# Altium footprint library AC220_to_48V.PcbLib: 9 footprints
Each footprint in its own frame and in the unit in brackets; x right, y up, seen from the top. Pads: shape width x height; smd on the part's side, far side on the other; paste and mask are expansions set on the pad; w line width, h text height; cw(c..) or ccw(c..) is an arc to the next point about the centre after c.
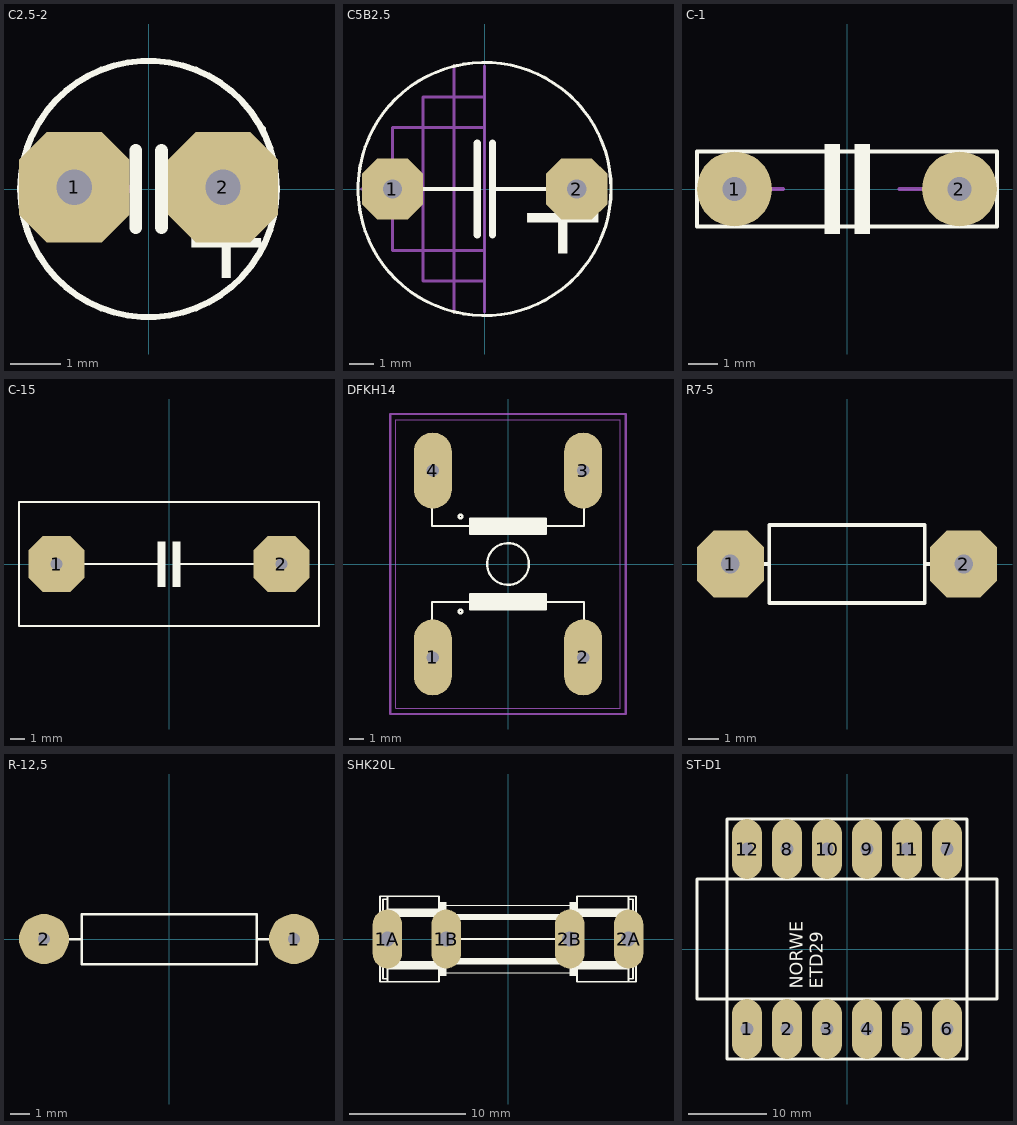
[diagram p0: the footprints below, top view; thin cyan lines are the x and y axes]

## C2.5-2 [mil] "C2.5-2"
pads (2):
  oct 86x86 / inner round 79.45 / far side oct 86x86 hole 27.56: 1(-58.05,1.44) 2(58.05,1.38)
Top Overlay:
  circle w5: c0,0 r100
  lines w5: 89.07,46.28 89.07,46.97
  lines w10: -10,-30 -10,0 -10,30 ; 10,-30 10,0 10,30
  text "+" at 24.44,-90.45 h108.5
Mechanical 3:
  lines w6: -50,0 -15,0 ; 15,0 50,0
Mechanical 7:
  lines w6: -15,0 -10,0 ; 10,0 15,0

## C5B2.5 [mil] "C5B2.5"
pads (2):
  oct 100x100 / inner round 92.39 / far side oct 100x100 hole 31.5: 1(-150,0) 2(150,0)
Top Overlay:
  circle w5: c0,0 r206.16
  lines w6: -160,0 -12,0 ; 13,0 110,0
  lines w12: -12,-75 -12,0 -12,75 ; 13,-75 13,0 13,75
  text "+" at 50,-150 h232.5
Top Value:
  lines w5: -200,0 -150,0 ; -50,-200 -50,200 ; 0,-200 0,-150 ; 0,200 0,150 ; -150,0 -150,-100 0,-100 ; -150,0 -150,100 0,100 ; 0,-150 -100,-150 -100,150 0,150 ; 0,-150 0,-100 ; 0,-100 0,100 ; 0,100 0,150

## C-1 [mil] "C-1"
pads (2):
  round 100 hole 32: 1(-150,0) 2(150,0)
Top Overlay:
  region: -30,-60 -30,60 -10,60 -10,-60
  region: 10,-60 10,60 30,60 30,-60
  lines w5: -200,-50 -200,50 200,50 200,-50 -200,-50
Mechanical 7:
  lines w5: -130,0 -85,0 ; 70,0 115,0

## C-15 [mil] "C-15"
pads (2):
  oct 150x150 / inner round 138.58 / far side oct 150x150 hole 32: 1(-300,0) 2(300,0)
Top Overlay:
  region: -30,-60 -30,60 -10,60 -10,-60
  region: 10,-60 10,60 30,60 30,-60
  lines w5: -255,0 -20,0 ; 25,0 255,0 ; -400,-165 400,-165 400,165 -400,165 -400,-165

## DFKH14 [mil] "DFKH14"
pads (4):
  oval 100x200 hole 32: 1(-198,-246) 2(198,-246) 3(198,246) 4(-198,246)
Top Overlay:
  circle w6: c0,0 r55
  circle w6: c-125,-125 r5
  circle w6: c-125,125 r5
  region: -100,120 100,120 100,80 -100,80
  region: -100,-80 100,-80 100,-120 -100,-120
  lines w6: -200,-205 -200,-100 -100,-100 ; -200,155 -200,100 -100,100 ; 100,-100 200,-100 200,-205 ; 200,205 200,100 100,100 ; -100,-100 -100,-120 100,-120 100,-80 -100,-80 -100,-100 ; -100,100 -100,120 100,120 100,100 ; -100,100 -100,80 100,80 100,100
Mechanical 3:
  lines w2: -295,-380 295,-380 295,380 -295,380 -295,-380
Mechanical 7:
  lines w6: -310,-395 310,-395 310,395 -310,395 -310,-395

## R7-5 [mil] "R7-5"
pads (2):
  oct 86x86 / inner round 79.45 / far side oct 86x86 hole 24: 1(-150,0) 2(150,0)
Top Overlay:
  lines w5: -120,0 -100,0 ; 120,0 100,0 ; -100,0 -100,50 100,50 100,0 ; -100,0 -100,-50 100,-50 100,0

## R-12,5 [mil] "R-12,5"
pads (2):
  round 100 hole 24: 1(250,0) 2(-250,0)
Top Overlay:
  lines w5: -220,0 -175,0 ; 220,0 175,0 ; -175,0 -175,50 175,50 175,0 ; -175,0 -175,-50 175,-50 175,0

## SHK20L [mil] "SHK20L"
pads (4):
  oval 100x200 hole 52: 1A(-410,0) 1B(-210,0) 2A(410,0) 2B(210,0)
Top Overlay:
  drawing of 81 lines, arcs and shapes, not listed

## ST-D1 [mil] "ST-D1"
pads (12):
  oval 150x300 hole 63: 1(-500,-400) 2(-300,-400) 3(-100,-400) 4(100,-400) 5(300,-400) 6(500,-400) 7(500,500) 8(-300,500) 9(100,500) 10(-100,500) 11(300,500) 12(-500,500)
Top Overlay:
  lines w16: -600,350 -600,650 600,650 600,-550 -600,-550 -600,350 ; -600,350 -550,350 750,350 750,-250 -750,-250 -750,350 -600,350
  text "ETD29" at -100,-200 h108.5
  text "NORWE" at -200,-200 h108.5
Mechanical 7:
  lines w6: -165,-420 -150,-420
  text "SMPS" at 300,-150 h155